# Altium schematic symbol library Symbol.SchLib: 349 symbols (part 3 of 3)
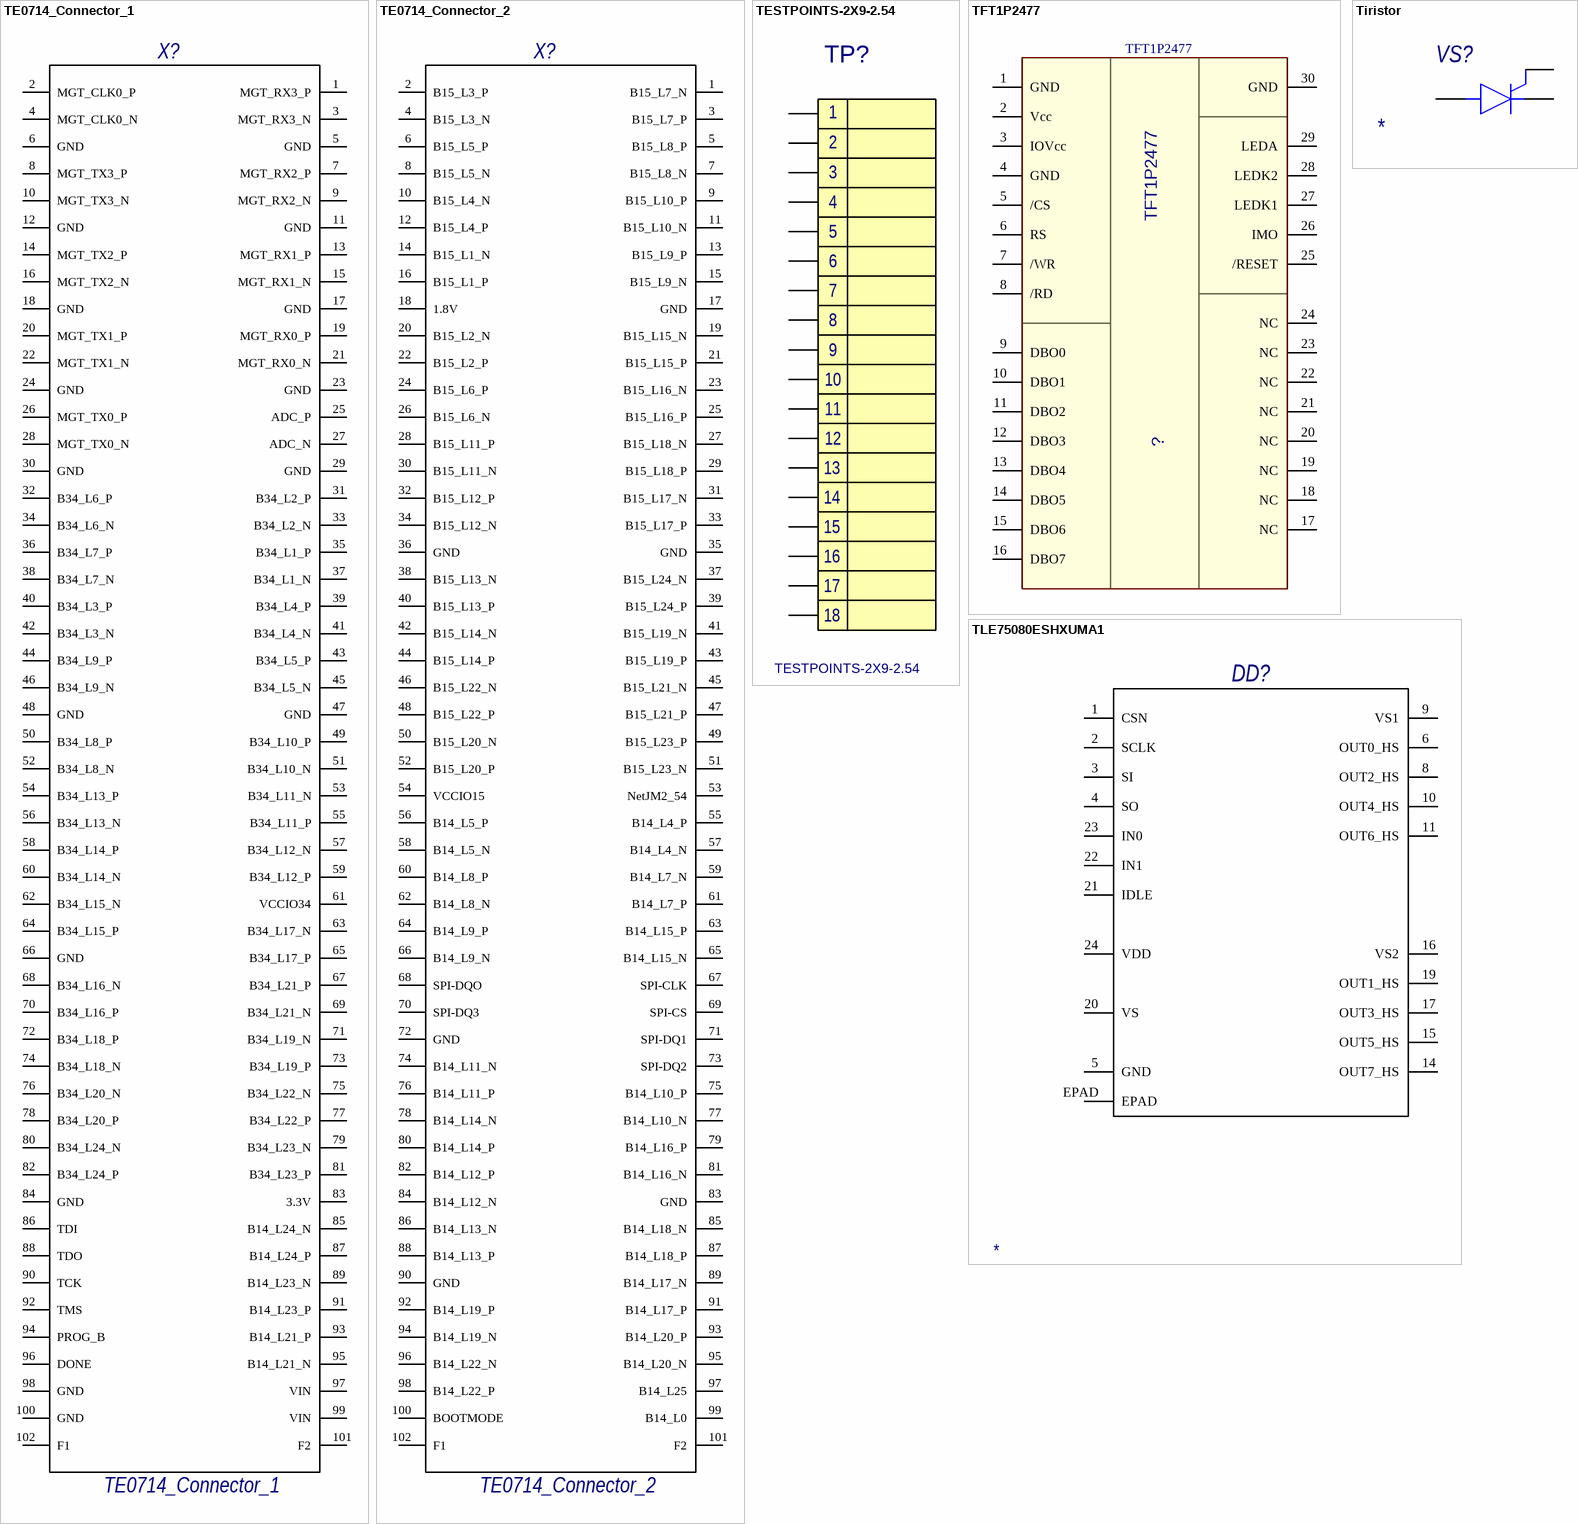
[diagram p35: symbols TE0714_Connector_1 to TLE75080ESHXUMA1]

## TE0714_Connector_2
designator X?
pins: 1 B15_L7_N, 2 B15_L3_P, 3 B15_L7_P, 4 B15_L3_N, 5 B15_L8_P, 6 B15_L5_P, 7 B15_L8_N, 8 B15_L5_N, 9 B15_L10_P, 10 B15_L4_N, 11 B15_L10_N, 12 B15_L4_P, 13 B15_L9_P, 14 B15_L1_N, 15 B15_L9_N, 16 B15_L1_P, 17 GND, 18 1.8V, 19 B15_L15_N, 20 B15_L2_N, 21 B15_L15_P, 22 B15_L2_P, 23 B15_L16_N, 24 B15_L6_P, 25 B15_L16_P, 26 B15_L6_N, 27 B15_L18_N, 28 B15_L11_P, 29 B15_L18_P, 30 B15_L11_N, 31 B15_L17_N, 32 B15_L12_P, 33 B15_L17_P, 34 B15_L12_N, 35 GND, 36 GND, 37 B15_L24_N, 38 B15_L13_N, 39 B15_L24_P, 40 B15_L13_P, 41 B15_L19_N, 42 B15_L14_N, 43 B15_L19_P, 44 B15_L14_P, 45 B15_L21_N, 46 B15_L22_N, 47 B15_L21_P, 48 B15_L22_P, 49 B15_L23_P, 50 B15_L20_N, 51 B15_L23_N, 52 B15_L20_P, 53 NetJM2_54, 54 VCCIO15, 55 B14_L4_P, 56 B14_L5_P, 57 B14_L4_N, 58 B14_L5_N, 59 B14_L7_N, 60 B14_L8_P, 61 B14_L7_P, 62 B14_L8_N, 63 B14_L15_P, 64 B14_L9_P, 65 B14_L15_N, 66 B14_L9_N, 67 SPI-CLK, 68 SPI-DQO, 69 SPI-CS, 70 SPI-DQ3, 71 SPI-DQ1, 72 GND, 73 SPI-DQ2, 74 B14_L11_N, 75 B14_L10_P, 76 B14_L11_P, 77 B14_L10_N, 78 B14_L14_N, 79 B14_L16_P, 80 B14_L14_P, 81 B14_L16_N, 82 B14_L12_P, 83 GND, 84 B14_L12_N, 85 B14_L18_N, 86 B14_L13_N, 87 B14_L18_P, 88 B14_L13_P, 89 B14_L17_N, 90 GND, 91 B14_L17_P, 92 B14_L19_P, 93 B14_L20_P, 94 B14_L19_N, 95 B14_L20_N, 96 B14_L22_N, 97 B14_L25, 98 B14_L22_P, 99 B14_L0, 100 BOOTMODE, 101 F2, 102 F1

## TESTPOINTS-2X9-2.54
designator TP?  (graphical)
MntType: SMD; MSL: MSL 1; RoHS: Comply; BOMDescription: SMD
footprint TESTPOINTS-2X9-2.54
pins: 1, 2, 3, 4, 5, 6, 7, 8, 9, 10, 11, 12, 13, 14, 15, 16, 17, 18

## TFT1P2477
designator ?
MntType: SMD; BOMDescription: SMD TFT DISPLAY TFT1P2477     TFT1P2477; MSL: MSL 1; Package: TFT1P2477; RoHS: Comply; PartType: TFT DISPLAY; MPN: TFT1P2477
footprint 30PIN-PAD-0.5-0.5
pins: 1 GND, 2 Vcc, 3 IOVcc, 4 GND, 5 /CS, 6 RS, 7 /WR, 8 /RD, 9 DBO0, 10 DBO1, 11 DBO2, 12 DBO3, 13 DBO4, 14 DBO5, 15 DBO6, 16 DBO7, 17 NC, 18 NC, 19 NC, 20 NC, 21 NC, 22 NC, 23 NC, 24 NC, 25 /RESET, 26 IMO, 27 LEDK1, 28 LEDK2, 29 LEDA, 30 GND

## Tiristor
designator VS?
MPN: *
pins: 1 K, 2 G, 3 A

## TLE75080ESHXUMA1
designator DD?
8-channel High-Side SPI Power Switch; MPN: *
pins: 1 CSN, 2 SCLK, 3 SI, 4 SO, 5 GND, 6 OUT0_HS, 8 OUT2_HS, 9 VS1, 10 OUT4_HS, 11 OUT6_HS, 14 OUT7_HS, 15 OUT5_HS, 16 VS2, 17 OUT3_HS, 19 OUT1_HS, 20 VS, 21 IDLE, 22 IN1, 23 IN0, 24 VDD, EPAD

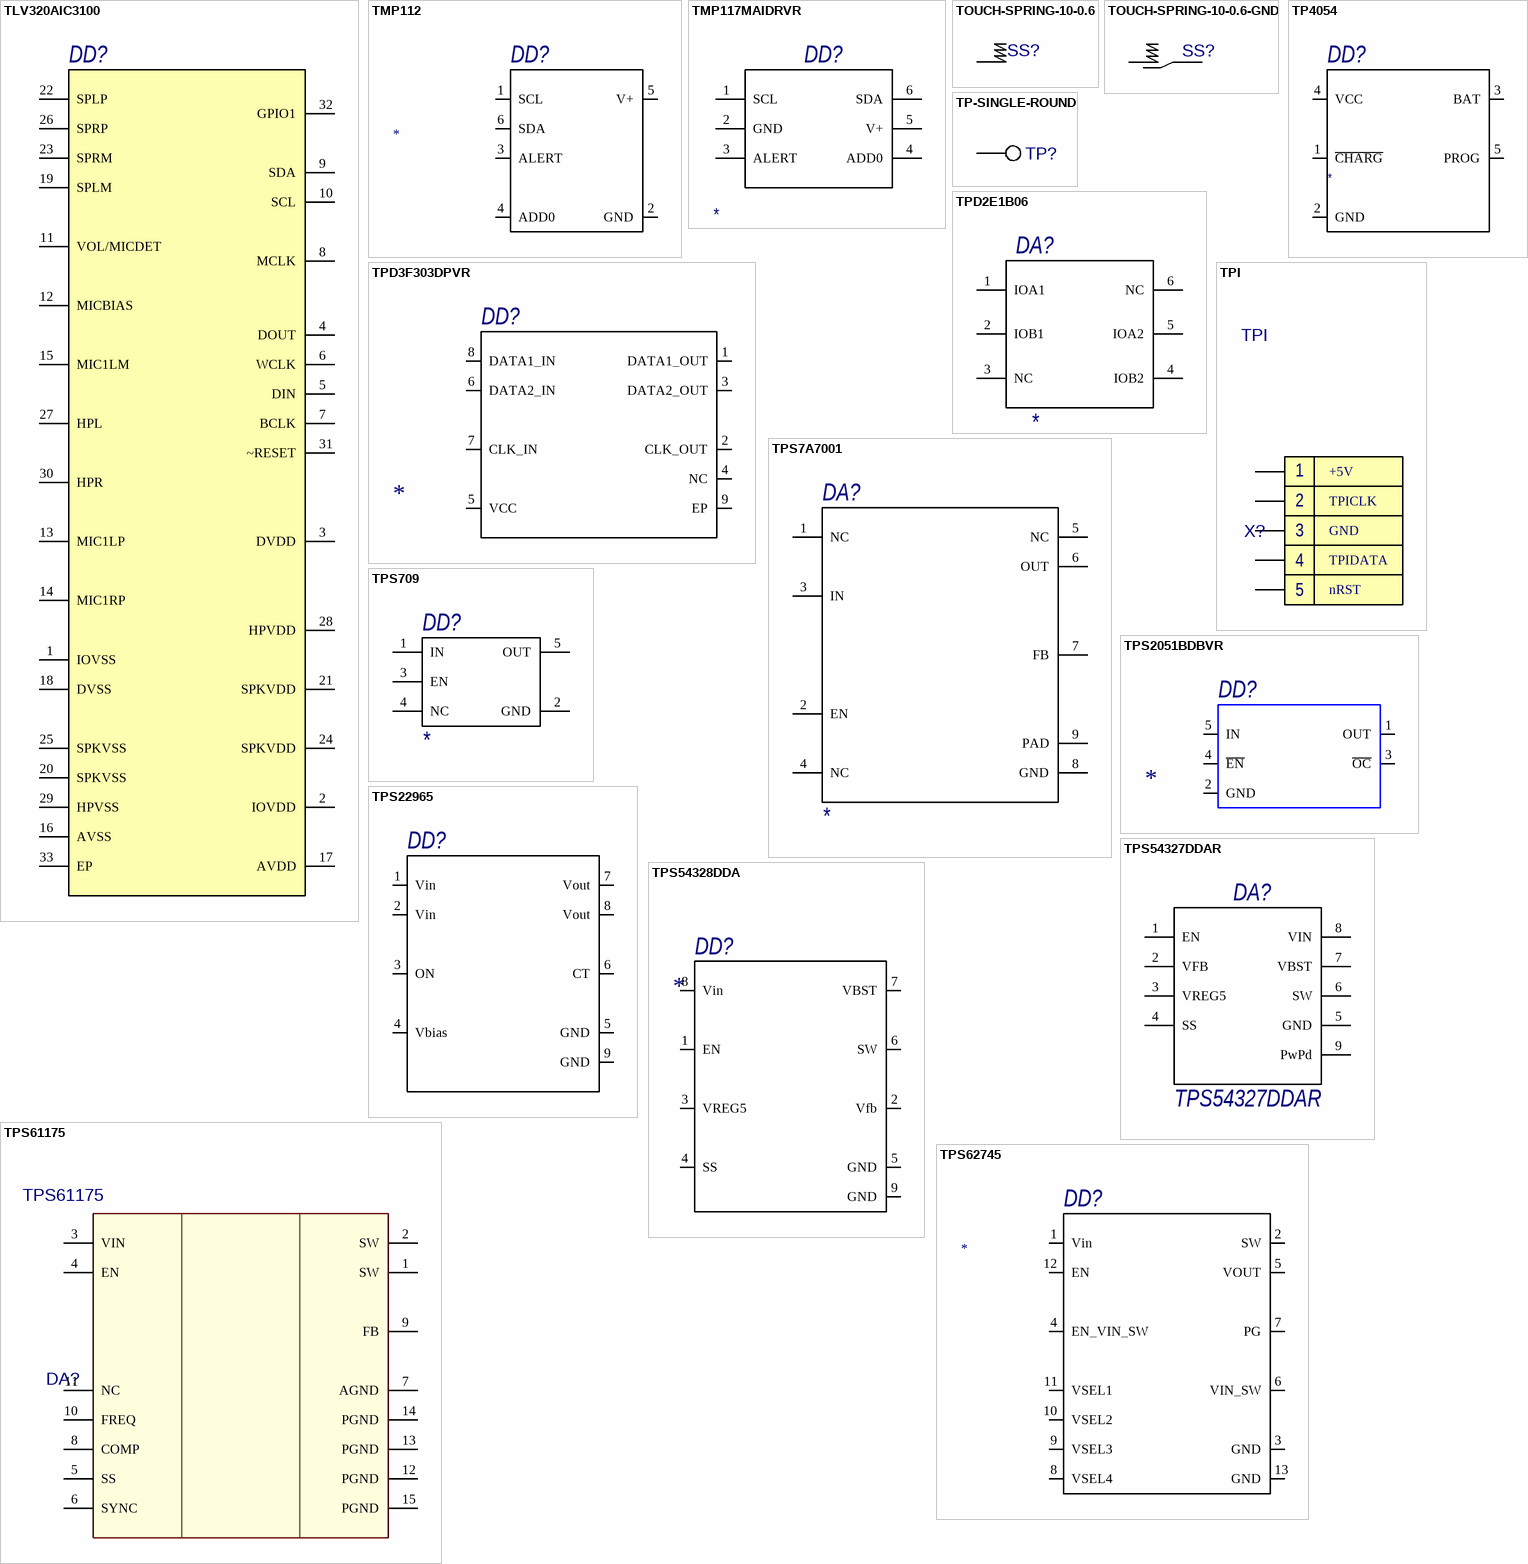
[diagram p30: symbols TLV320AIC3100 to TPS62745]

## TLV320AIC3100
designator DD?
Integrated Circuit; Manufacturer_Name: Texas Instruments; Manufacturer_Part_Number: TLV320AIC3100IRHBR; Datasheet Link: http://www.ti.com/lit/gpn/tlv320aic3100; Mouser Part Number: 595-V320AIC3100IRHBR; Mouser Price/Stock: https://www.mouser.com/Search/Refine.aspx?Keyword=595-V320AIC3100IRHBR
pins: 1 IOVSS, 2 IOVDD, 3 DVDD, 4 DOUT, 5 DIN, 6 WCLK, 7 BCLK, 8 MCLK, 9 SDA, 10 SCL, 11 VOL/MICDET, 12 MICBIAS, 13 MIC1LP, 14 MIC1RP, 15 MIC1LM, 16 AVSS, 17 AVDD, 18 DVSS, 19 SPLM, 20 SPKVSS, 21 SPKVDD, 22 SPLP, 23 SPRM, 24 SPKVDD, 25 SPKVSS, 26 SPRP, 27 HPL, 28 HPVDD, 29 HPVSS, 30 HPR, 31 ~RESET, 32 GPIO1, 33 EP

## TMP112
designator DD?
pins: 1 SCL, 2 GND, 3 ALERT, 4 ADD0, 5 V+, 6 SDA

## TMP117MAIDRVR
designator DD?
Digital Temperature Sensor -55 +150; MPN: *
pins: 1 SCL, 2 GND, 3 ALERT, 4 ADD0, 5 V+, 6 SDA

## TOUCH-SPRING-10-0.6
designator SS?  (value not drawn)  (no BOM)
MntType: SMD; MSL: MSL 1; RoHS: Comply; BOMDescription: SMD
footprint TOUCH-SPRING-10-0.6
pins: 1

## TOUCH-SPRING-10-0.6-GND
designator SS?  (value not drawn)  (mechanical)
MntType: SMD; MSL: MSL 1; RoHS: Comply; BOMDescription: SMD
footprint TOUCH-SPRING-10-0.6-GND
pins: 1, 2

## TP4054
designator DD?
MPN: *
pins: 1 ~{CHARG}, 2 GND, 3 BAT, 4 VCC, 5 PROG

## TP-SINGLE-ROUND
designator TP?  (value not drawn)  (no BOM)
MntType: SMD; MSL: MSL 1; RoHS: Comply; BOMDescription: SMD
footprint TP-ROUND-TOP-1.5
footprint TP-ROUND-TOP-1.0
pins: 1

## TPD2E1B06
designator DA?
MPN: *; ComponentLink1Description: Datasheet
pins: 1 IOA1, 2 IOB1, 3 NC, 4 IOB2, 5 IOA2, 6 NC

## TPD3F303DPVR
designator DD?
pins: 1 DATA1_OUT "Data and Rest signals Output pin. The DATA1 and DATA2 are symmetric circuits.They can be used interchangeably for either DATA or RESET pins based off board layout scheme.", 2 CLK_OUT "Clock Output signal.", 3 DATA2_OUT "Data and Rest signals Output pin. The DATA1 and DATA2 are symmetric circuits.They can be used interchangeably for either DATA or RESET pins based off board layout scheme.", 4 NC "Not connected to any internal circuit. Leave this pin floating.", 5 VCC (power) "ESD Clamp circuit for the VCC pin.", 6 DATA2_IN "Data and Rest signals Input pin. The DATA1 and DATA2 are symmetric circuits.They can be used interchangeably for either DATA or RESET pins based off board layout scheme.", 7 CLK_IN "Clock Input signal.", 8 DATA1_IN "Data and Rest signals Input pin. The DATA1 and DATA2 are symmetric circuits.They can be used interchangeably for either DATA or RESET pins based off board layout scheme.", 9 EP (power) "Ground connection for the EMI filter. It is very important to connect the device GND to the printed circuit board ground plane through Vias directly under the package."

## TPI
designator X?
MPN: PLS5; MntType: DIP; BOMDescription: DIP CONNECTOR CONNPLS5     PLS5; MSL: MSL 1; Package: CONNPLS5; RoHS: Comply; PartType: CONNECTOR; Pins: 5
footprint PLS5
pins: 1, 2, 3, 4, 5
text: +5V; TPICLK; GND; TPIDATA; nRST

## TPS7A7001
designator DA?
LDO, 2-Amp with Enable; MPN: *
pins: 1 NC "Not internally connected. The NC pins are not connected to any electrical node. It is  recommended to connect the NC pins to large-area planes.", 2 EN "Enable input. Pulling this pin below 0.5 V turns the regulator off. Connect to VIN if not being  used.", 3 IN "Unregulated supply voltage pin. It is recommended to connect an input capacitor to this pin.", 4 NC "Not internally connected. The NC pins are not connected to any electrical node. It is  recommended to connect the NC pins to large-area planes.", 5 NC "Not internally connected. The NC pins are not connected to any electrical node. It is  recommended to connect the NC pins to large-area planes.", 6 OUT "Regulated output pin. A 4.7-μF or larger capacitor of any type is required for stability", 7 FB "This pin is the output voltage feedback input through voltage dividers", 8 GND "Ground pin", 9 PAD "TI strongly recommends connecting the thermal pad to a large-area ground plane"

## TPS709
designator DD?
MPN: *
pins: 1 IN (power), 2 GND (power), 3 EN, 4 NC, 5 OUT

## TPS2051BDBVR
designator DD?
pins: 1 OUT, 2 GND, 3 ~{OC}, 4 ~{EN}, 5 IN

## TPS22965
designator DD?  (value not drawn)
pins: 1 Vin, 2 Vin, 3 ON, 4 Vbias, 5 GND, 6 CT, 7 Vout, 8 Vout, 9 GND

## TPS54327DDAR
designator DA?
Output Single Synchronous Step-Down Switcher / With Integrated FET
pins: 1 EN, 2 VFB, 3 VREG5, 4 SS, 5 GND, 6 SW, 7 VBST, 8 VIN, 9 PwPd

## TPS54328DDA
designator DD?
pins: 1 EN, 2 Vfb, 3 VREG5, 4 SS, 5 GND, 6 SW, 7 VBST, 8 Vin, 9 GND

## TPS61175
designator DA?
Manufacturer: TI; MntType: SMD; BOMDescription: SMD BOOST CONVERTER HTSSOP14     TPS61175; MPN: TPS61175; MSL: MSL 1; Package: HTSSOP14; RoHS: Comply; PartType: BOOST CONVERTER; Pins: 14
footprint HTSSOP-14
pins: 1 SW, 2 SW, 3 VIN, 4 EN, 5 SS, 6 SYNC, 7 AGND, 8 COMP, 9 FB, 10 FREQ, 11 NC, 12 PGND, 13 PGND, 14 PGND, 15 PGND

## TPS62745
designator DD?
pins: 1 Vin, 2 SW, 3 GND, 4 EN_VIN_SW, 5 VOUT, 6 VIN_SW, 7 PG, 8 VSEL4, 9 VSEL3, 10 VSEL2, 11 VSEL1, 12 EN, 13 GND

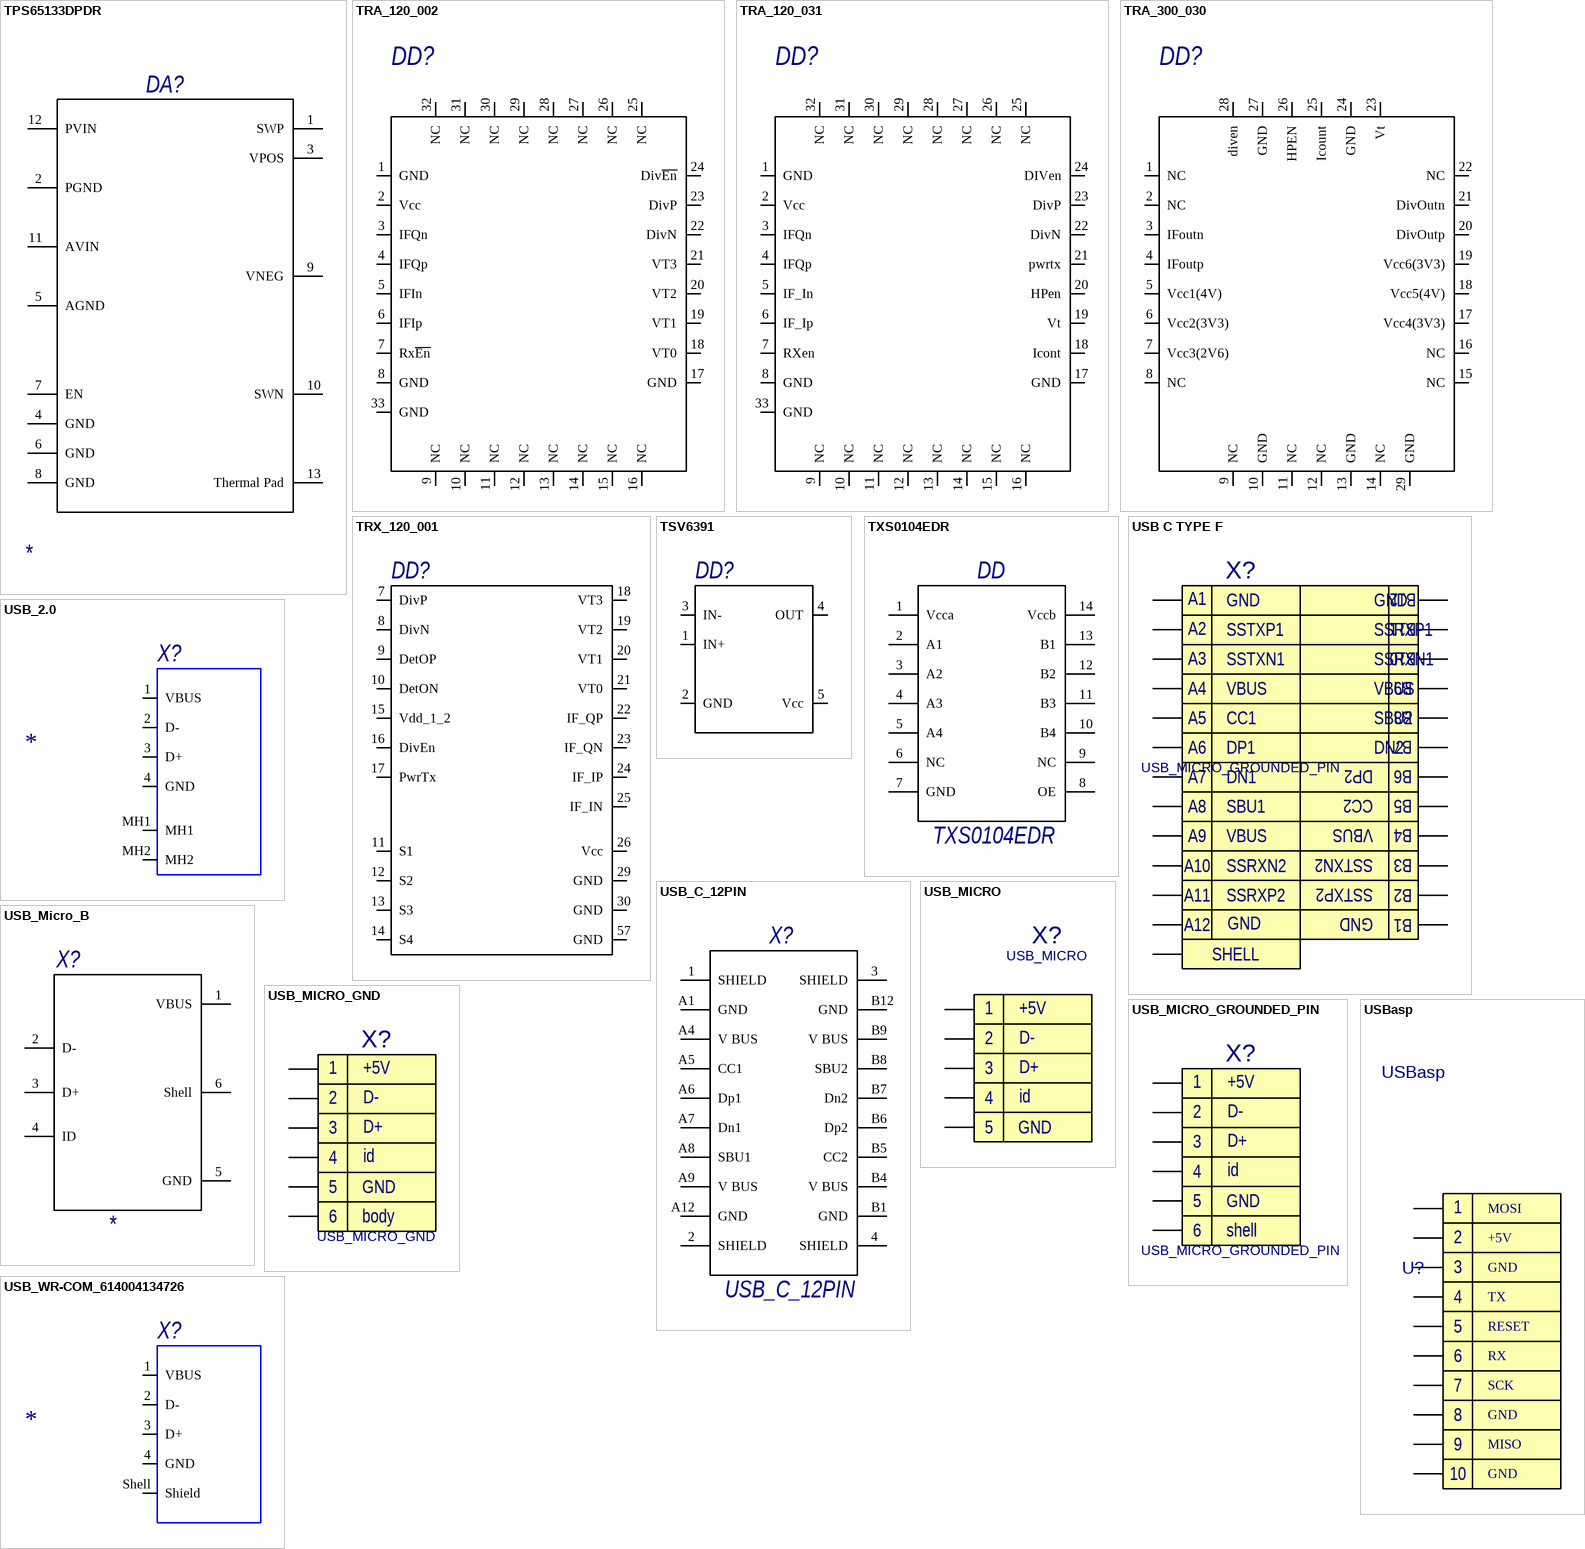
[diagram p31: symbols TPS65133DPDR to USBasp]

## TPS65133DPDR
designator DA?
Dual-Output Power Supply; MPN: *
pins: 1 SWP, 2 PGND, 3 VPOS, 4 GND, 5 AGND, 6 GND, 7 EN, 8 GND, 9 VNEG, 10 SWN, 11 AVIN, 12 PVIN, 13 Thermal Pad

## TRA_120_002
designator DD?  (value not drawn)
pins: 1 GND, 2 Vcc, 3 IFQn, 4 IFQp, 5 IFIn, 6 IFIp, 7 Rx~{En}, 8 GND, 9 NC, 10 NC, 11 NC, 12 NC, 13 NC, 14 NC, 15 NC, 16 NC, 17 GND, 18 VT0, 19 VT1, 20 VT2, 21 VT3, 22 DivN, 23 DivP, 24 Div~{En}, 25 NC, 26 NC, 27 NC, 28 NC, 29 NC, 30 NC, 31 NC, 32 NC, 33 GND

## TRA_120_031
designator DD?  (value not drawn)
pins: 1 GND, 2 Vcc, 3 IFQn, 4 IFQp, 5 IF_In, 6 IF_Ip, 7 RXen, 8 GND, 9 NC, 10 NC, 11 NC, 12 NC, 13 NC, 14 NC, 15 NC, 16 NC, 17 GND, 18 Icont, 19 Vt, 20 HPen, 21 pwrtx, 22 DivN, 23 DivP, 24 DIVen, 25 NC, 26 NC, 27 NC, 28 NC, 29 NC, 30 NC, 31 NC, 32 NC, 33 GND

## TRA_300_030
designator DD?  (value not drawn)
pins: 1 NC, 2 NC, 3 IFoutn, 4 IFoutp, 5 Vcc1(4V), 6 Vcc2(3V3), 7 Vcc3(2V6), 8 NC, 9 NC, 10 GND, 11 NC, 12 NC, 13 GND, 14 NC, 15 NC, 16 NC, 17 Vcc4(3V3), 18 Vcc5(4V), 19 Vcc6(3V3), 20 DivOutp, 21 DivOutn, 22 NC, 23 Vt, 24 GND, 25 Icount, 26 HPEN, 27 GND, 28 diven, 29 GND

## TRX_120_001
designator DD?  (value not drawn)
pins: 7 DivP, 8 DivN, 9 DetOP, 10 DetON, 11 S1, 12 S2, 13 S3, 14 S4, 15 Vdd_1_2, 16 DivEn, 17 PwrTx, 18 VT3, 19 VT2, 20 VT1, 21 VT0, 22 IF_QP, 23 IF_QN, 24 IF_IP, 25 IF_IN, 26 Vcc, 29 GND, 30 GND, 57 GND

## TSV6391
designator DD?  (value not drawn)
pins: 1 IN+, 2 GND, 3 IN-, 4 OUT, 5 Vcc

## TXS0104EDR
designator DD
4-Bit Bidirectional Voltage-Level Translator for Open-Drain and Push-Pull Applications
footprint SOIC127P600X175-14N (SOIC, 14-Leads, Body 8,65x3,90mm, Pitch 1,27mm, IPC Medium Density)
pins: 1 Vcca, 2 A1, 3 A2, 4 A3, 5 A4, 6 NC, 7 GND, 8 OE, 9 NC, 10 B4, 11 B3, 12 B2, 13 B1, 14 Vccb

## USB C TYPE F
designator X?, comment USB_MICRO_GROUNDED_PIN
MntType: SMD; BOMDescription: SMD USB C TYPE F; MSL: MSL 1; RoHS: Comply; PartType: USB C TYPE F
footprint USB_C_F_TYPE SMT
pins: A1 1, A2 2, A3 3, A4 4, A5 5, A6 6, A7 1, A8 2, A9 3, A10 4, A11 5, A12 6, B1 1, B2 2, B3 3, B4 4, B5 5, B6 6, B7 1, B8 2, B9 3, B10 4, B11 5, B12 6, SHELL 6
text: GND; SSTXP1; SSRXP1; SSTXN1; SSRXN1; VBUS; CC1; SBU2; DP1; DN2; DN1; DP2; SBU1; CC2; SSRXN2; SSTXN2; SSRXP2; SSTXP2

## USB_2.0
designator X?
pins: 1 VBUS, 2 D-, 3 D+, 4 GND, MH1, MH2

## USB_C_12PIN
designator X?
USB - Type C Female 12 SMD USB Connector RoHS
pins: 1 SHIELD, 2 SHIELD, 3 SHIELD, 4 SHIELD, A1 GND, A4 V BUS, A5 CC1, A6 Dp1, A7 Dn1, A8 SBU1, A9 V BUS, A12 GND, B1 GND, B4 V BUS, B5 CC2, B6 Dp2, B7 Dn2, B8 SBU2, B9 V BUS, B12 GND

## USB_MICRO
designator X?
MntType: SMD; BOMDescription: SMD MICRO USB CONNECTOR; MSL: MSL 1; RoHS: Comply; PartType: MICRO USB CONNECTOR
footprint USB_MICRO
pins: 1, 2, 3, 4, 5
text: +5V; D-; D+; id; GND

## USB_Micro_B
designator X?
USB 2.0 Micro-B Female Connector; Value: *
pins: 1 VBUS, 2 D-, 3 D+, 4 ID, 5 GND, 6 Shell

## USB_MICRO_GND
designator X?
MntType: SMD; BOMDescription: SMD MICRO USB CONNECTOR; MSL: MSL 1; RoHS: Comply; PartType: MICRO USB CONNECTOR
footprint USB_MICRO_GROUNDED
pins: 1, 2, 3, 4, 5, 6
text: +5V; D-; D+; id; GND; body

## USB_MICRO_GROUNDED_PIN
designator X?
MntType: SMD; BOMDescription: SMD MICRO USB CONNECTOR; MSL: MSL 1; RoHS: Comply; PartType: MICRO USB CONNECTOR
footprint USB_MICRO_GROUNDED_PIN
pins: 1, 2, 3, 4, 5, SHELL
text: +5V; D-; D+; id; GND; 6; shell

## USB_WR-COM_614004134726
designator X?
pins: 1 VBUS, 2 D-, 3 D+, 4 GND, Shell Shield

## USBasp
designator U?
MPN: USBasb_conn; MntType: DIP; BOMDescription: DIP CONNECTOR CONNPLS10     USBasb_conn; MSL: MSL 1; Package: CONNPLS10; RoHS: Comply; PartType: CONNECTOR; Pins: 10
footprint USBasp
pins: 1, 2, 3, 4, 5, 6, 7, 8, 9, 10
text: MOSI; +5V; GND; TX; RESET; RX; SCK; MISO

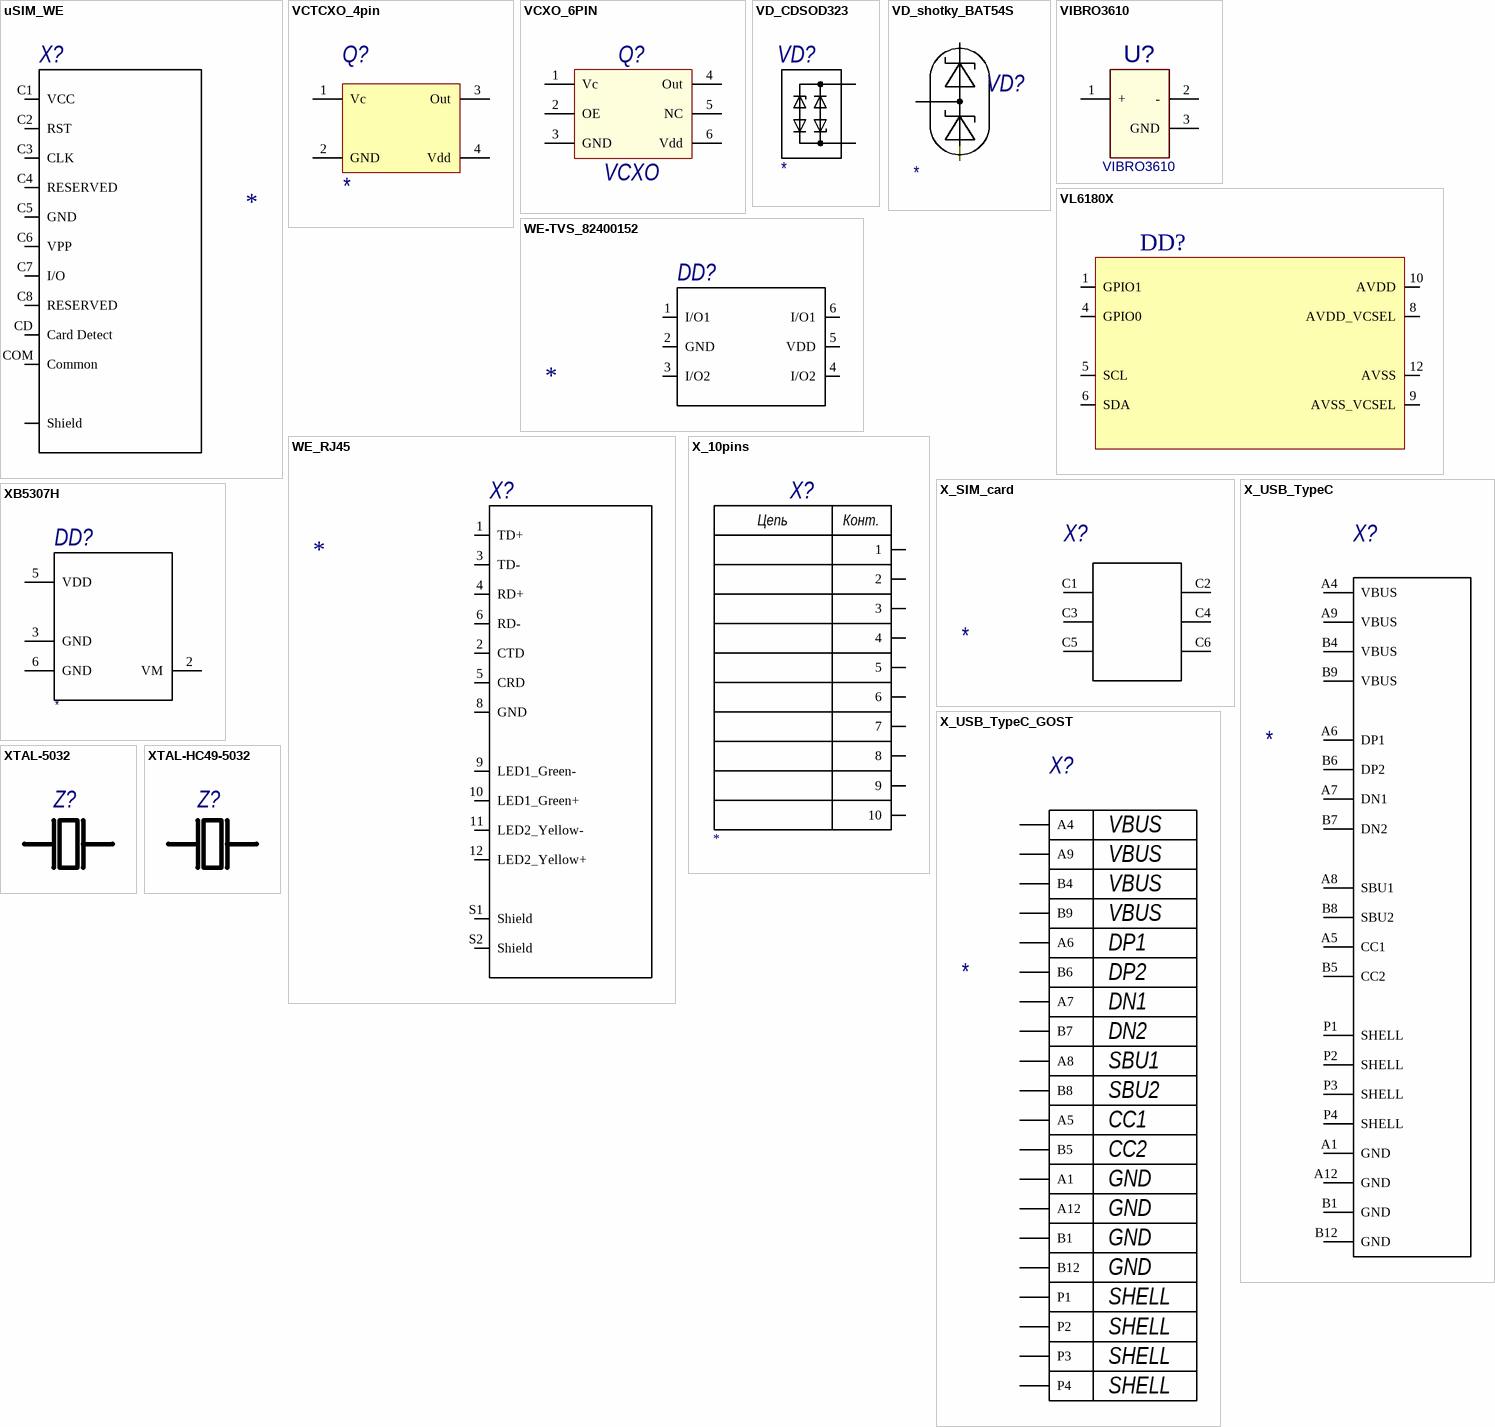
[diagram p32: symbols uSIM_WE to XTAL-HC49-5032]

## uSIM_WE
designator X?
pins: C1 VCC, C2 RST, C3 CLK, C4 RESERVED, C5 GND, C6 VPP, C7 I/O, C8 RESERVED, CD Card Detect, COM Common, Shield

## VCTCXO_4pin
designator Q?
pins: 1 Vc, 2 GND, 3 Out, 4 Vdd

## VCXO_6PIN
designator Q?, comment VCXO
pins: 1 Vc, 2 OE, 3 GND, 4 Out, 5 NC, 6 Vdd

## VD_CDSOD323
designator VD?
TVS Diode Array; MPN: *
pins: 1, 2

## VD_shotky_BAT54S
designator VD?
MPN: *
pins: 1, 2, 3
1 alternate drawing of the same symbol

## VIBRO3610
designator U?
MntType: SMD; BOMDescription: SMD VIBROMOTOR VIBRO3610     VIBRO3610; MPN: VIBRO3610; MSL: MSL 1; Package: VIBRO3610; RoHS: Comply; PartType: VIBROMOTOR
footprint VIBRO3610
pins: 1 +, 2 -, 3 GND

## VL6180X
designator DD?  (value not drawn)
pins: 1 GPIO1, 4 GPIO0, 5 SCL (io), 6 SDA (io), 8 AVDD_VCSEL (power), 9 AVSS_VCSEL (power), 10 AVDD (power), 12 AVSS (power)

## WE-TVS_82400152
designator DD?
pins: 1 I/O1, 2 GND, 3 I/O2, 4 I/O2, 5 VDD, 6 I/O1

## WE_RJ45
designator X?
pins: 1 TD+, 2 CTD, 3 TD-, 4 RD+, 5 CRD, 6 RD-, 8 GND, 9 LED1_Green-, 10 LED1_Green+, 11 LED2_Yellow-, 12 LED2_Yellow+, S1 Shield, S2 Shield

## X_10pins
designator X?
MPN: *
pins: 1, 2, 3, 4, 5, 6, 7, 8, 9, 10
text: Цепь; Конт.

## X_SIM_card
designator X?
MPN: *
pins: C1 VCC (power), C2 RST, C3 CLK, C4 SHLD, C5 GND (power), C6 VPP (power)

## X_USB_TypeC
designator X?
MPN: *
pins: A1 GND, A4 VBUS, A5 CC1, A6 DP1, A7 DN1, A8 SBU1, A9 VBUS, A12 GND, B1 GND, B4 VBUS, B5 CC2, B6 DP2, B7 DN2, B8 SBU2, B9 VBUS, B12 GND, P1 SHELL, P2 SHELL, P3 SHELL, P4 SHELL

## X_USB_TypeC_GOST
designator X?
MPN: *
pins: A1, A4, A5, A6, A7, A8, A9, A12, B1, B4, B5, B6, B7, B8, B9, B12, P1, P2, P3, P4
text: VBUS; DP1; DP2; DN1; DN2; SBU1; SBU2; CC1; CC2; GND; SHELL

## XB5307H
designator DD?
MPN: *
pins: 2 VM, 3 GND, 5 VDD, 6 GND

## XTAL-5032
designator Z?
MntType: SMD; BOMDescription: SMD XTAL; MSL: MSL 1; RoHS: Comply; PartType: XTAL
pins: 1, 2

## XTAL-HC49-5032
designator Z?
MntType: SMD; BOMDescription: SMD XTAL; MSL: MSL 1; RoHS: Comply; PartType: XTAL
pins: 1, 2

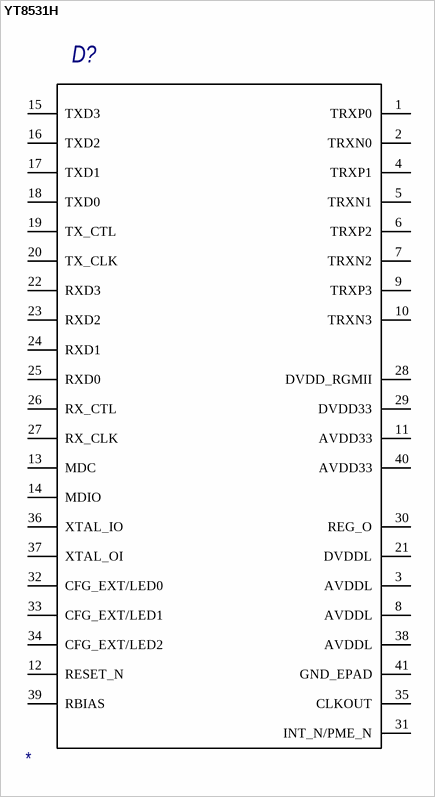
[diagram p33: symbol YT8531H]

## YT8531H
designator D?
Ethernet; MPN: *
pins: 1 TRXP0, 2 TRXN0, 3 AVDDL, 4 TRXP1, 5 TRXN1, 6 TRXP2, 7 TRXN2, 8 AVDDL, 9 TRXP3, 10 TRXN3, 11 AVDD33, 12 RESET_N, 13 MDC, 14 MDIO, 15 TXD3, 16 TXD2, 17 TXD1, 18 TXD0, 19 TX_CTL, 20 TX_CLK, 21 DVDDL, 22 RXD3, 23 RXD2, 24 RXD1, 25 RXD0, 26 RX_CTL, 27 RX_CLK, 28 DVDD_RGMII, 29 DVDD33, 30 REG_O, 31 INT_N/PME_N, 32 CFG_EXT/LED0, 33 CFG_EXT/LED1, 34 CFG_EXT/LED2, 35 CLKOUT, 36 XTAL_IO, 37 XTAL_OI, 38 AVDDL, 39 RBIAS, 40 AVDD33, 41 GND_EPAD